# Altium schematic symbol library URM37.SchLib: 1 symbol
Pins are listed as number, name and electrical type; pins without a type are passive.

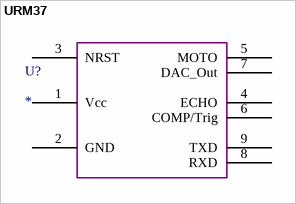
[diagram p0: symbol URM37]

## URM37
designator U?
pins: 1 Vcc, 2 GND, 3 NRST, 4 ECHO, 5 MOTO, 6 COMP/Trig, 7 DAC_Out, 8 RXD, 9 TXD